# Altium integrated library Maxim Analog Filters.IntLib: 555 symbols (part 4 of 26)
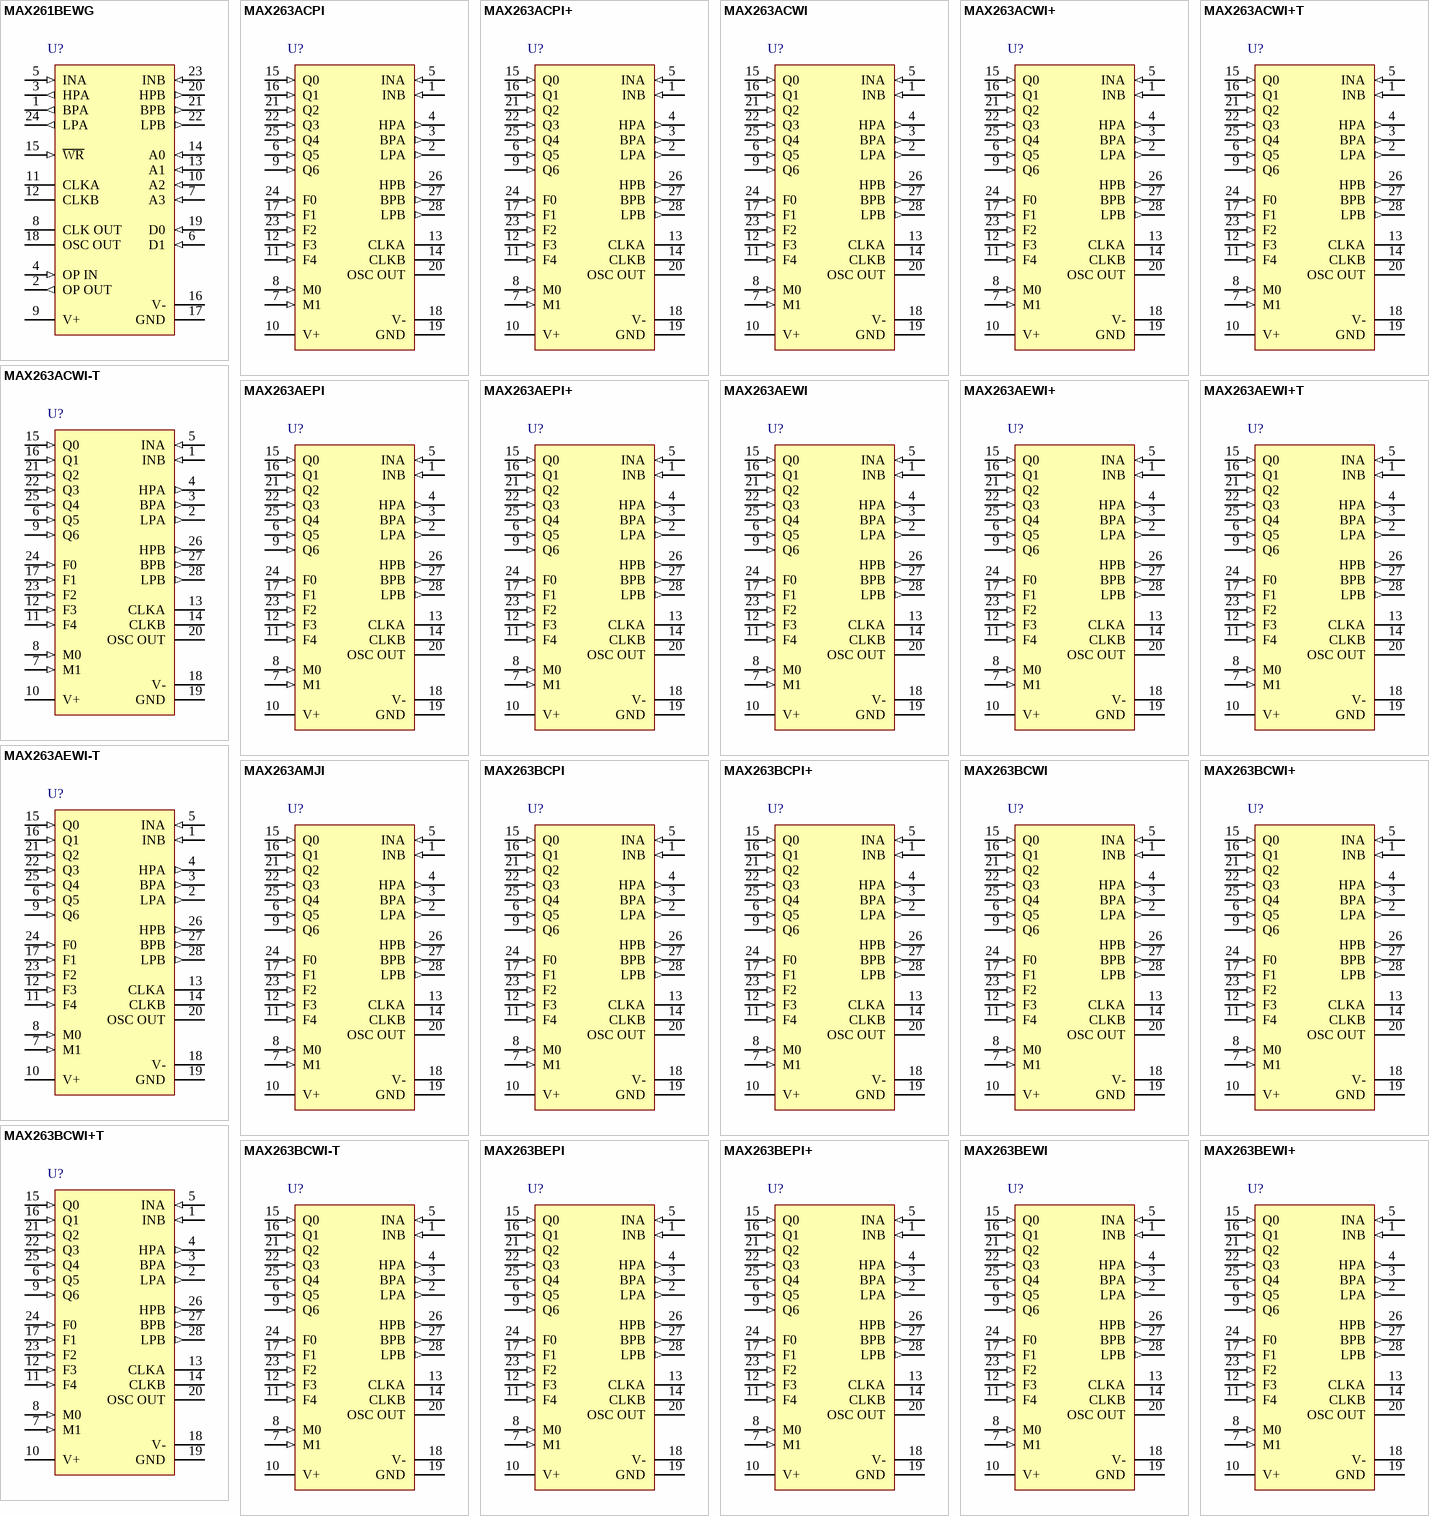
[diagram p20: symbols MAX261BEWG to MAX263BEWI+]

## MAX263AEPI+
designator U?
Switched Capacitor Filter, Pin Strap Programmable, -40 to 85 degC, 28-Pin DIP (P28+5), Pb-Free; Generic Part Number: MAX263; PartNumber: MAX263AEPI+; Filter Sections: 2; Filter Type: Universal; DatasheetVersion: Rev. 4; PackageVersion: Rev. D, 04/2011; PackageReference: P28+5; PackageDescription: 28-Pin Plastic Dual-In-Line, Wide (0.6in) (P28+5), Body 36.83 x 13.975 mm, Pitch 2.54 mm; Supplier 1: Mouser; Supplier Part Number 1: N/A; Filter Characteristic: Programmable; Filter Class: Switched Cap; Order Per Filter Section: 2; Program Method: Pin Strap; RoHS: Pb-Free; Mounting Technology: Through Hole; Code_JEDEC: MSO11; ComponentLink1Description: Manufacturer URL; ComponentLink1URL: http://www.maximintegrated.com/; ComponentLink2Description: Datasheet; ComponentLink2URL: http://datasheets.maximintegrated.com/en/ds/MAX263-MAX268.pdf; ComponentLink3Description: Package Specification; ComponentLink3URL: http://pdfserv.maximintegrated.com/package_dwgs/21-0044.PDF
footprint MAXM-P28+5 (DIP, 28-Leads, Body 36.83x13.975mm, Pitch 2.54mm)
pins: 1 INB (in) "Filter inputs", 2 LPA (out) "Lowpass outputs", 3 BPA (out) "Bandpass outputs", 4 HPA (out) "Highpass/Notch/Allpass outputs", 5 INA (in) "Filter inputs", 6 Q5 (in) "Q programming inputs", 7 M1 (in) "Mode select inputs", 8 M0 (in) "Mode select inputs", 9 Q6 (in) "Q programming inputs", 10 V+ (power) "Positive supply voltage", 11 F4 (in) "Clock/center frequency ratio (fclk/fo) programming inputs", 12 F3 (in) "Clock/center frequency ratio (fclk/fo) programming inputs", 13 CLKA "Input to the oscillator and clock input to section A.This clock is internally divided by 2.", 14 CLKB "Clock input to filter B. This clock is internally divided by 2.", 15 Q0 (in) "Q programming inputs", 16 Q1 (in) "Q programming inputs", 17 F1 (in) "Clock/center frequency ratio (fclk/fo) programming inputs", 18 V- (power) "Negative supply voltage", 19 GND (power) "Analog Ground.Connect to the system ground for dual supply operation or mid-supply for single supply operation. Gnd should be well bypassed in single supply applications.", 20 OSC OUT "Connects to crystal for self clocked operation", 21 Q2 (in) "Q programming inputs", 22 Q3 (in) "Q programming inputs", 23 F2 (in) "Clock/center frequency ratio (fclk/fo) programming inputs", 24 F0 (in) "Clock/center frequency ratio (fclk/fo) programming inputs", 25 Q4 (in) "Q programming inputs", 26 HPB (out) "Highpass/Notch/Allpass outputs", 27 BPB (out) "Bandpass outputs", 28 LPB (out) "Lowpass outputs"

## MAX263AEWI
designator U?
Switched Capacitor Filter, Pin Strap Programmable, -40 to 85 degC, 28-Pin SOIC (W28-5); Generic Part Number: MAX263; PartNumber: MAX263AEWI; Filter Sections: 2; Filter Type: Universal; DatasheetVersion: Rev. 4; PackageVersion: Rev. F, 10/2012; PackageReference: W28-5; PackageDescription: 28-Pin Small-Outline IC, Wide (0.3in) (W28-5), Body 17.9 x 7.5 mm, Pitch 1.27 mm; Supplier 1: Mouser; Supplier Part Number 1: N/A; Filter Characteristic: Programmable; Filter Class: Switched Cap; Order Per Filter Section: 2; Program Method: Pin Strap; Mounting Technology: Surface Mount; Code_JEDEC: MS013; ComponentLink1Description: Manufacturer URL; ComponentLink1URL: http://www.maximintegrated.com/; ComponentLink2Description: Datasheet; ComponentLink2URL: http://datasheets.maximintegrated.com/en/ds/MAX263-MAX268.pdf; ComponentLink3Description: Package Specification; ComponentLink3URL: http://pdfserv.maximintegrated.com/package_dwgs/21-0042.PDF
footprint MAXM-W28-5_N (SOIC, 28-Leads, Body 17.9x7.5mm, Pitch 1.27mm, IPC Medium Density)
footprint MAXM-W28-5_L (SOIC, 28-Leads, Body 17.9x7.5mm, Pitch 1.27mm, IPC High Density)
footprint MAXM-W28-5_M (SOIC, 28-Leads, Body 17.9x7.5mm, Pitch 1.27mm, IPC Low Density)
pins: 1 INB (in) "Filter inputs", 2 LPA (out) "Lowpass outputs", 3 BPA (out) "Bandpass outputs", 4 HPA (out) "Highpass/Notch/Allpass outputs", 5 INA (in) "Filter inputs", 6 Q5 (in) "Q programming inputs", 7 M1 (in) "Mode select inputs", 8 M0 (in) "Mode select inputs", 9 Q6 (in) "Q programming inputs", 10 V+ (power) "Positive supply voltage", 11 F4 (in) "Clock/center frequency ratio (fclk/fo) programming inputs", 12 F3 (in) "Clock/center frequency ratio (fclk/fo) programming inputs", 13 CLKA "Input to the oscillator and clock input to section A.This clock is internally divided by 2.", 14 CLKB "Clock input to filter B. This clock is internally divided by 2.", 15 Q0 (in) "Q programming inputs", 16 Q1 (in) "Q programming inputs", 17 F1 (in) "Clock/center frequency ratio (fclk/fo) programming inputs", 18 V- (power) "Negative supply voltage", 19 GND (power) "Analog Ground.Connect to the system ground for dual supply operation or mid-supply for single supply operation. Gnd should be well bypassed in single supply applications.", 20 OSC OUT "Connects to crystal for self clocked operation", 21 Q2 (in) "Q programming inputs", 22 Q3 (in) "Q programming inputs", 23 F2 (in) "Clock/center frequency ratio (fclk/fo) programming inputs", 24 F0 (in) "Clock/center frequency ratio (fclk/fo) programming inputs", 25 Q4 (in) "Q programming inputs", 26 HPB (out) "Highpass/Notch/Allpass outputs", 27 BPB (out) "Bandpass outputs", 28 LPB (out) "Lowpass outputs"

## MAX263AEWI+
designator U?
Switched Capacitor Filter, Pin Strap Programmable, -40 to 85 degC, 28-Pin SOIC (W28+5), Pb-Free; Generic Part Number: MAX263; PartNumber: MAX263AEWI+; Filter Sections: 2; Filter Type: Universal; DatasheetVersion: Rev. 4; PackageVersion: Rev. F, 10/2012; PackageReference: W28+5; PackageDescription: 28-Pin Small-Outline IC, Wide (0.3in) (W28+5), Body 17.9 x 7.5 mm, Pitch 1.27 mm; Supplier 1: Mouser; Supplier Part Number 1: N/A; Filter Characteristic: Programmable; Filter Class: Switched Cap; Order Per Filter Section: 2; Program Method: Pin Strap; RoHS: Pb-Free; Mounting Technology: Surface Mount; Code_JEDEC: MS013; ComponentLink1Description: Manufacturer URL; ComponentLink1URL: http://www.maximintegrated.com/; ComponentLink2Description: Datasheet; ComponentLink2URL: http://datasheets.maximintegrated.com/en/ds/MAX263-MAX268.pdf; ComponentLink3Description: Package Specification; ComponentLink3URL: http://pdfserv.maximintegrated.com/package_dwgs/21-0042.PDF
footprint MAXM-W28+5_N (SOIC, 28-Leads, Body 17.9x7.5mm, Pitch 1.27mm, IPC Medium Density)
footprint MAXM-W28+5_L (SOIC, 28-Leads, Body 17.9x7.5mm, Pitch 1.27mm, IPC High Density)
footprint MAXM-W28+5_M (SOIC, 28-Leads, Body 17.9x7.5mm, Pitch 1.27mm, IPC Low Density)
pins: 1 INB (in) "Filter inputs", 2 LPA (out) "Lowpass outputs", 3 BPA (out) "Bandpass outputs", 4 HPA (out) "Highpass/Notch/Allpass outputs", 5 INA (in) "Filter inputs", 6 Q5 (in) "Q programming inputs", 7 M1 (in) "Mode select inputs", 8 M0 (in) "Mode select inputs", 9 Q6 (in) "Q programming inputs", 10 V+ (power) "Positive supply voltage", 11 F4 (in) "Clock/center frequency ratio (fclk/fo) programming inputs", 12 F3 (in) "Clock/center frequency ratio (fclk/fo) programming inputs", 13 CLKA "Input to the oscillator and clock input to section A.This clock is internally divided by 2.", 14 CLKB "Clock input to filter B. This clock is internally divided by 2.", 15 Q0 (in) "Q programming inputs", 16 Q1 (in) "Q programming inputs", 17 F1 (in) "Clock/center frequency ratio (fclk/fo) programming inputs", 18 V- (power) "Negative supply voltage", 19 GND (power) "Analog Ground.Connect to the system ground for dual supply operation or mid-supply for single supply operation. Gnd should be well bypassed in single supply applications.", 20 OSC OUT "Connects to crystal for self clocked operation", 21 Q2 (in) "Q programming inputs", 22 Q3 (in) "Q programming inputs", 23 F2 (in) "Clock/center frequency ratio (fclk/fo) programming inputs", 24 F0 (in) "Clock/center frequency ratio (fclk/fo) programming inputs", 25 Q4 (in) "Q programming inputs", 26 HPB (out) "Highpass/Notch/Allpass outputs", 27 BPB (out) "Bandpass outputs", 28 LPB (out) "Lowpass outputs"

## MAX263AEWI+T
designator U?
Switched Capacitor Filter, Pin Strap Programmable, -40 to 85 degC, 28-Pin SOIC (W28+5), Pb-Free, Tape and Reel; Generic Part Number: MAX263; PartNumber: MAX263AEWI+T; Filter Sections: 2; Filter Type: Universal; DatasheetVersion: Rev. 4; PackageVersion: Rev. F, 10/2012; PackageReference: W28+5; PackageDescription: 28-Pin Small-Outline IC, Wide (0.3in) (W28+5), Body 17.9 x 7.5 mm, Pitch 1.27 mm; Supplier 1: Mouser; Supplier Part Number 1: N/A; Filter Characteristic: Programmable; Filter Class: Switched Cap; Order Per Filter Section: 2; Packing: Tape and Reel; Program Method: Pin Strap; RoHS: Pb-Free; Mounting Technology: Surface Mount; Code_JEDEC: MS013; ComponentLink1Description: Manufacturer URL; ComponentLink1URL: http://www.maximintegrated.com/; ComponentLink2Description: Datasheet; ComponentLink2URL: http://datasheets.maximintegrated.com/en/ds/MAX263-MAX268.pdf; ComponentLink3Description: Package Specification; ComponentLink3URL: http://pdfserv.maximintegrated.com/package_dwgs/21-0042.PDF
footprint MAXM-W28+5_N (SOIC, 28-Leads, Body 17.9x7.5mm, Pitch 1.27mm, IPC Medium Density)
footprint MAXM-W28+5_L (SOIC, 28-Leads, Body 17.9x7.5mm, Pitch 1.27mm, IPC High Density)
footprint MAXM-W28+5_M (SOIC, 28-Leads, Body 17.9x7.5mm, Pitch 1.27mm, IPC Low Density)
pins: 1 INB (in) "Filter inputs", 2 LPA (out) "Lowpass outputs", 3 BPA (out) "Bandpass outputs", 4 HPA (out) "Highpass/Notch/Allpass outputs", 5 INA (in) "Filter inputs", 6 Q5 (in) "Q programming inputs", 7 M1 (in) "Mode select inputs", 8 M0 (in) "Mode select inputs", 9 Q6 (in) "Q programming inputs", 10 V+ (power) "Positive supply voltage", 11 F4 (in) "Clock/center frequency ratio (fclk/fo) programming inputs", 12 F3 (in) "Clock/center frequency ratio (fclk/fo) programming inputs", 13 CLKA "Input to the oscillator and clock input to section A.This clock is internally divided by 2.", 14 CLKB "Clock input to filter B. This clock is internally divided by 2.", 15 Q0 (in) "Q programming inputs", 16 Q1 (in) "Q programming inputs", 17 F1 (in) "Clock/center frequency ratio (fclk/fo) programming inputs", 18 V- (power) "Negative supply voltage", 19 GND (power) "Analog Ground.Connect to the system ground for dual supply operation or mid-supply for single supply operation. Gnd should be well bypassed in single supply applications.", 20 OSC OUT "Connects to crystal for self clocked operation", 21 Q2 (in) "Q programming inputs", 22 Q3 (in) "Q programming inputs", 23 F2 (in) "Clock/center frequency ratio (fclk/fo) programming inputs", 24 F0 (in) "Clock/center frequency ratio (fclk/fo) programming inputs", 25 Q4 (in) "Q programming inputs", 26 HPB (out) "Highpass/Notch/Allpass outputs", 27 BPB (out) "Bandpass outputs", 28 LPB (out) "Lowpass outputs"

## MAX263AEWI-T
designator U?
Switched Capacitor Filter, Pin Strap Programmable, -40 to 85 degC, 28-Pin SOIC (W28-5), Tape and Reel; Generic Part Number: MAX263; PartNumber: MAX263AEWI-T; Filter Sections: 2; Filter Type: Universal; DatasheetVersion: Rev. 4; PackageVersion: Rev. F, 10/2012; PackageReference: W28-5; PackageDescription: 28-Pin Small-Outline IC, Wide (0.3in) (W28-5), Body 17.9 x 7.5 mm, Pitch 1.27 mm; Supplier 1: Mouser; Supplier Part Number 1: N/A; Filter Characteristic: Programmable; Filter Class: Switched Cap; Order Per Filter Section: 2; Packing: Tape and Reel; Program Method: Pin Strap; Mounting Technology: Surface Mount; Code_JEDEC: MS013; ComponentLink1Description: Manufacturer URL; ComponentLink1URL: http://www.maximintegrated.com/; ComponentLink2Description: Datasheet; ComponentLink2URL: http://datasheets.maximintegrated.com/en/ds/MAX263-MAX268.pdf; ComponentLink3Description: Package Specification; ComponentLink3URL: http://pdfserv.maximintegrated.com/package_dwgs/21-0042.PDF
footprint MAXM-W28-5_N (SOIC, 28-Leads, Body 17.9x7.5mm, Pitch 1.27mm, IPC Medium Density)
footprint MAXM-W28-5_L (SOIC, 28-Leads, Body 17.9x7.5mm, Pitch 1.27mm, IPC High Density)
footprint MAXM-W28-5_M (SOIC, 28-Leads, Body 17.9x7.5mm, Pitch 1.27mm, IPC Low Density)
pins: 1 INB (in) "Filter inputs", 2 LPA (out) "Lowpass outputs", 3 BPA (out) "Bandpass outputs", 4 HPA (out) "Highpass/Notch/Allpass outputs", 5 INA (in) "Filter inputs", 6 Q5 (in) "Q programming inputs", 7 M1 (in) "Mode select inputs", 8 M0 (in) "Mode select inputs", 9 Q6 (in) "Q programming inputs", 10 V+ (power) "Positive supply voltage", 11 F4 (in) "Clock/center frequency ratio (fclk/fo) programming inputs", 12 F3 (in) "Clock/center frequency ratio (fclk/fo) programming inputs", 13 CLKA "Input to the oscillator and clock input to section A.This clock is internally divided by 2.", 14 CLKB "Clock input to filter B. This clock is internally divided by 2.", 15 Q0 (in) "Q programming inputs", 16 Q1 (in) "Q programming inputs", 17 F1 (in) "Clock/center frequency ratio (fclk/fo) programming inputs", 18 V- (power) "Negative supply voltage", 19 GND (power) "Analog Ground.Connect to the system ground for dual supply operation or mid-supply for single supply operation. Gnd should be well bypassed in single supply applications.", 20 OSC OUT "Connects to crystal for self clocked operation", 21 Q2 (in) "Q programming inputs", 22 Q3 (in) "Q programming inputs", 23 F2 (in) "Clock/center frequency ratio (fclk/fo) programming inputs", 24 F0 (in) "Clock/center frequency ratio (fclk/fo) programming inputs", 25 Q4 (in) "Q programming inputs", 26 HPB (out) "Highpass/Notch/Allpass outputs", 27 BPB (out) "Bandpass outputs", 28 LPB (out) "Lowpass outputs"

## MAX263AMJI
designator U?
Switched Capacitor Filter, Pin Strap Programmable, -55 to 125 degC, 28-Pin DIP (J28-2); Generic Part Number: MAX263; PartNumber: MAX263AMJI; Filter Sections: 2; Filter Type: Universal; DatasheetVersion: Rev. 4; PackageVersion: Rev. B, 11/2009; PackageReference: J28-2; PackageDescription: 28-Pin Ceramic Dual-In-Line, Wide (0.6in) (J28-2), Body 37.85 x 14.225 mm, Pitch 2.54 mm; Supplier 1: Mouser; Supplier Part Number 1: N/A; Filter Characteristic: Programmable; Filter Class: Switched Cap; Order Per Filter Section: 2; Program Method: Pin Strap; Mounting Technology: Through Hole; ComponentLink1Description: Manufacturer URL; ComponentLink1URL: http://www.maximintegrated.com/; ComponentLink2Description: Datasheet; ComponentLink2URL: http://datasheets.maximintegrated.com/en/ds/MAX263-MAX268.pdf; ComponentLink3Description: Package Specification; ComponentLink3URL: http://pdfserv.maximintegrated.com/package_dwgs/21-0046.PDF
footprint MAXM-J28-2 (DIP, 28-Leads, Body 37.85x14.225mm, Pitch 2.54mm)
pins: 1 INB (in) "Filter inputs", 2 LPA (out) "Lowpass outputs", 3 BPA (out) "Bandpass outputs", 4 HPA (out) "Highpass/Notch/Allpass outputs", 5 INA (in) "Filter inputs", 6 Q5 (in) "Q programming inputs", 7 M1 (in) "Mode select inputs", 8 M0 (in) "Mode select inputs", 9 Q6 (in) "Q programming inputs", 10 V+ (power) "Positive supply voltage", 11 F4 (in) "Clock/center frequency ratio (fclk/fo) programming inputs", 12 F3 (in) "Clock/center frequency ratio (fclk/fo) programming inputs", 13 CLKA "Input to the oscillator and clock input to section A.This clock is internally divided by 2.", 14 CLKB "Clock input to filter B. This clock is internally divided by 2.", 15 Q0 (in) "Q programming inputs", 16 Q1 (in) "Q programming inputs", 17 F1 (in) "Clock/center frequency ratio (fclk/fo) programming inputs", 18 V- (power) "Negative supply voltage", 19 GND (power) "Analog Ground.Connect to the system ground for dual supply operation or mid-supply for single supply operation. Gnd should be well bypassed in single supply applications.", 20 OSC OUT "Connects to crystal for self clocked operation", 21 Q2 (in) "Q programming inputs", 22 Q3 (in) "Q programming inputs", 23 F2 (in) "Clock/center frequency ratio (fclk/fo) programming inputs", 24 F0 (in) "Clock/center frequency ratio (fclk/fo) programming inputs", 25 Q4 (in) "Q programming inputs", 26 HPB (out) "Highpass/Notch/Allpass outputs", 27 BPB (out) "Bandpass outputs", 28 LPB (out) "Lowpass outputs"

## MAX263BCPI
designator U?
Switched Capacitor Filter, Pin Strap Programmable, 0 to 70 degC, 28-Pin DIP (P28-5); Generic Part Number: MAX263; PartNumber: MAX263BCPI; Filter Sections: 2; Filter Type: Universal; DatasheetVersion: Rev. 4; PackageVersion: Rev. D, 04/2011; PackageReference: P28-5; PackageDescription: 28-Pin Plastic Dual-In-Line, Wide (0.6in) (P28-5), Body 36.83 x 13.975 mm, Pitch 2.54 mm; Supplier 1: Mouser; Supplier Part Number 1: N/A; Filter Characteristic: Programmable; Filter Class: Switched Cap; Order Per Filter Section: 2; Program Method: Pin Strap; Mounting Technology: Through Hole; Code_JEDEC: MS011; ComponentLink1Description: Manufacturer URL; ComponentLink1URL: http://www.maximintegrated.com/; ComponentLink2Description: Datasheet; ComponentLink2URL: http://datasheets.maximintegrated.com/en/ds/MAX263-MAX268.pdf; ComponentLink3Description: Package Specification; ComponentLink3URL: http://pdfserv.maximintegrated.com/package_dwgs/21-0044.PDF
footprint MAXM-P28-5 (DIP, 28-Leads, Body 36.83x13.975mm, Pitch 2.54mm)
pins: 1 INB (in) "Filter inputs", 2 LPA (out) "Lowpass outputs", 3 BPA (out) "Bandpass outputs", 4 HPA (out) "Highpass/Notch/Allpass outputs", 5 INA (in) "Filter inputs", 6 Q5 (in) "Q programming inputs", 7 M1 (in) "Mode select inputs", 8 M0 (in) "Mode select inputs", 9 Q6 (in) "Q programming inputs", 10 V+ (power) "Positive supply voltage", 11 F4 (in) "Clock/center frequency ratio (fclk/fo) programming inputs", 12 F3 (in) "Clock/center frequency ratio (fclk/fo) programming inputs", 13 CLKA "Input to the oscillator and clock input to section A.This clock is internally divided by 2.", 14 CLKB "Clock input to filter B. This clock is internally divided by 2.", 15 Q0 (in) "Q programming inputs", 16 Q1 (in) "Q programming inputs", 17 F1 (in) "Clock/center frequency ratio (fclk/fo) programming inputs", 18 V- (power) "Negative supply voltage", 19 GND (power) "Analog Ground.Connect to the system ground for dual supply operation or mid-supply for single supply operation. Gnd should be well bypassed in single supply applications.", 20 OSC OUT "Connects to crystal for self clocked operation", 21 Q2 (in) "Q programming inputs", 22 Q3 (in) "Q programming inputs", 23 F2 (in) "Clock/center frequency ratio (fclk/fo) programming inputs", 24 F0 (in) "Clock/center frequency ratio (fclk/fo) programming inputs", 25 Q4 (in) "Q programming inputs", 26 HPB (out) "Highpass/Notch/Allpass outputs", 27 BPB (out) "Bandpass outputs", 28 LPB (out) "Lowpass outputs"

## MAX263BCPI+
designator U?
Switched Capacitor Filter, Pin Strap Programmable, 0 to 70 degC, 28-Pin DIP (P28+5), Pb-Free; Generic Part Number: MAX263; PartNumber: MAX263BCPI+; Filter Sections: 2; Filter Type: Universal; DatasheetVersion: Rev. 4; PackageVersion: Rev. D, 04/2011; PackageReference: P28+5; PackageDescription: 28-Pin Plastic Dual-In-Line, Wide (0.6in) (P28+5), Body 36.83 x 13.975 mm, Pitch 2.54 mm; Supplier 1: Digi-Key; Supplier Part Number 1: MAX263BCPI+-ND; Supplier 2: Mouser; Supplier Part Number 2: 700-MAX263BCPI; Filter Characteristic: Programmable; Filter Class: Switched Cap; Order Per Filter Section: 2; Program Method: Pin Strap; RoHS: Pb-Free; Mounting Technology: Through Hole; Code_JEDEC: MSO11; ComponentLink1Description: Manufacturer URL; ComponentLink1URL: http://www.maximintegrated.com/; ComponentLink2Description: Datasheet; ComponentLink2URL: http://datasheets.maximintegrated.com/en/ds/MAX263-MAX268.pdf; ComponentLink3Description: Package Specification; ComponentLink3URL: http://pdfserv.maximintegrated.com/package_dwgs/21-0044.PDF
footprint MAXM-P28+5 (DIP, 28-Leads, Body 36.83x13.975mm, Pitch 2.54mm)
pins: 1 INB (in) "Filter inputs", 2 LPA (out) "Lowpass outputs", 3 BPA (out) "Bandpass outputs", 4 HPA (out) "Highpass/Notch/Allpass outputs", 5 INA (in) "Filter inputs", 6 Q5 (in) "Q programming inputs", 7 M1 (in) "Mode select inputs", 8 M0 (in) "Mode select inputs", 9 Q6 (in) "Q programming inputs", 10 V+ (power) "Positive supply voltage", 11 F4 (in) "Clock/center frequency ratio (fclk/fo) programming inputs", 12 F3 (in) "Clock/center frequency ratio (fclk/fo) programming inputs", 13 CLKA "Input to the oscillator and clock input to section A.This clock is internally divided by 2.", 14 CLKB "Clock input to filter B. This clock is internally divided by 2.", 15 Q0 (in) "Q programming inputs", 16 Q1 (in) "Q programming inputs", 17 F1 (in) "Clock/center frequency ratio (fclk/fo) programming inputs", 18 V- (power) "Negative supply voltage", 19 GND (power) "Analog Ground.Connect to the system ground for dual supply operation or mid-supply for single supply operation. Gnd should be well bypassed in single supply applications.", 20 OSC OUT "Connects to crystal for self clocked operation", 21 Q2 (in) "Q programming inputs", 22 Q3 (in) "Q programming inputs", 23 F2 (in) "Clock/center frequency ratio (fclk/fo) programming inputs", 24 F0 (in) "Clock/center frequency ratio (fclk/fo) programming inputs", 25 Q4 (in) "Q programming inputs", 26 HPB (out) "Highpass/Notch/Allpass outputs", 27 BPB (out) "Bandpass outputs", 28 LPB (out) "Lowpass outputs"

## MAX263BCWI
designator U?
Switched Capacitor Filter, Pin Strap Programmable, 0 to 70 degC, 28-Pin SOIC (W28-5); Generic Part Number: MAX263; PartNumber: MAX263BCWI; Filter Sections: 2; Filter Type: Universal; DatasheetVersion: Rev. 4; PackageVersion: Rev. F, 10/2012; PackageReference: W28-5; PackageDescription: 28-Pin Small-Outline IC, Wide (0.3in) (W28-5), Body 17.9 x 7.5 mm, Pitch 1.27 mm; Supplier 1: Mouser; Supplier Part Number 1: N/A; Filter Characteristic: Programmable; Filter Class: Switched Cap; Order Per Filter Section: 2; Program Method: Pin Strap; Mounting Technology: Surface Mount; Code_JEDEC: MS013; ComponentLink1Description: Manufacturer URL; ComponentLink1URL: http://www.maximintegrated.com/; ComponentLink2Description: Datasheet; ComponentLink2URL: http://datasheets.maximintegrated.com/en/ds/MAX263-MAX268.pdf; ComponentLink3Description: Package Specification; ComponentLink3URL: http://pdfserv.maximintegrated.com/package_dwgs/21-0042.PDF
footprint MAXM-W28-5_N (SOIC, 28-Leads, Body 17.9x7.5mm, Pitch 1.27mm, IPC Medium Density)
footprint MAXM-W28-5_L (SOIC, 28-Leads, Body 17.9x7.5mm, Pitch 1.27mm, IPC High Density)
footprint MAXM-W28-5_M (SOIC, 28-Leads, Body 17.9x7.5mm, Pitch 1.27mm, IPC Low Density)
pins: 1 INB (in) "Filter inputs", 2 LPA (out) "Lowpass outputs", 3 BPA (out) "Bandpass outputs", 4 HPA (out) "Highpass/Notch/Allpass outputs", 5 INA (in) "Filter inputs", 6 Q5 (in) "Q programming inputs", 7 M1 (in) "Mode select inputs", 8 M0 (in) "Mode select inputs", 9 Q6 (in) "Q programming inputs", 10 V+ (power) "Positive supply voltage", 11 F4 (in) "Clock/center frequency ratio (fclk/fo) programming inputs", 12 F3 (in) "Clock/center frequency ratio (fclk/fo) programming inputs", 13 CLKA "Input to the oscillator and clock input to section A.This clock is internally divided by 2.", 14 CLKB "Clock input to filter B. This clock is internally divided by 2.", 15 Q0 (in) "Q programming inputs", 16 Q1 (in) "Q programming inputs", 17 F1 (in) "Clock/center frequency ratio (fclk/fo) programming inputs", 18 V- (power) "Negative supply voltage", 19 GND (power) "Analog Ground.Connect to the system ground for dual supply operation or mid-supply for single supply operation. Gnd should be well bypassed in single supply applications.", 20 OSC OUT "Connects to crystal for self clocked operation", 21 Q2 (in) "Q programming inputs", 22 Q3 (in) "Q programming inputs", 23 F2 (in) "Clock/center frequency ratio (fclk/fo) programming inputs", 24 F0 (in) "Clock/center frequency ratio (fclk/fo) programming inputs", 25 Q4 (in) "Q programming inputs", 26 HPB (out) "Highpass/Notch/Allpass outputs", 27 BPB (out) "Bandpass outputs", 28 LPB (out) "Lowpass outputs"

## MAX263BCWI+
designator U?
Switched Capacitor Filter, Pin Strap Programmable, 0 to 70 degC, 28-Pin SOIC (W28+5), Pb-Free; Generic Part Number: MAX263; PartNumber: MAX263BCWI+; Filter Sections: 2; Filter Type: Universal; DatasheetVersion: Rev. 4; PackageVersion: Rev. F, 10/2012; PackageReference: W28+5; PackageDescription: 28-Pin Small-Outline IC, Wide (0.3in) (W28+5), Body 17.9 x 7.5 mm, Pitch 1.27 mm; Supplier 1: Digi-Key; Supplier Part Number 1: MAX263BCWI+-ND; Supplier 2: Mouser; Supplier Part Number 2: 700-MAX263BCWI; Filter Characteristic: Programmable; Filter Class: Switched Cap; Order Per Filter Section: 2; Program Method: Pin Strap; RoHS: Pb-Free; Mounting Technology: Surface Mount; Code_JEDEC: MS013; ComponentLink1Description: Manufacturer URL; ComponentLink1URL: http://www.maximintegrated.com/; ComponentLink2Description: Datasheet; ComponentLink2URL: http://datasheets.maximintegrated.com/en/ds/MAX263-MAX268.pdf; ComponentLink3Description: Package Specification; ComponentLink3URL: http://pdfserv.maximintegrated.com/package_dwgs/21-0042.PDF
footprint MAXM-W28+5_N (SOIC, 28-Leads, Body 17.9x7.5mm, Pitch 1.27mm, IPC Medium Density)
footprint MAXM-W28+5_L (SOIC, 28-Leads, Body 17.9x7.5mm, Pitch 1.27mm, IPC High Density)
footprint MAXM-W28+5_M (SOIC, 28-Leads, Body 17.9x7.5mm, Pitch 1.27mm, IPC Low Density)
pins: 1 INB (in) "Filter inputs", 2 LPA (out) "Lowpass outputs", 3 BPA (out) "Bandpass outputs", 4 HPA (out) "Highpass/Notch/Allpass outputs", 5 INA (in) "Filter inputs", 6 Q5 (in) "Q programming inputs", 7 M1 (in) "Mode select inputs", 8 M0 (in) "Mode select inputs", 9 Q6 (in) "Q programming inputs", 10 V+ (power) "Positive supply voltage", 11 F4 (in) "Clock/center frequency ratio (fclk/fo) programming inputs", 12 F3 (in) "Clock/center frequency ratio (fclk/fo) programming inputs", 13 CLKA "Input to the oscillator and clock input to section A.This clock is internally divided by 2.", 14 CLKB "Clock input to filter B. This clock is internally divided by 2.", 15 Q0 (in) "Q programming inputs", 16 Q1 (in) "Q programming inputs", 17 F1 (in) "Clock/center frequency ratio (fclk/fo) programming inputs", 18 V- (power) "Negative supply voltage", 19 GND (power) "Analog Ground.Connect to the system ground for dual supply operation or mid-supply for single supply operation. Gnd should be well bypassed in single supply applications.", 20 OSC OUT "Connects to crystal for self clocked operation", 21 Q2 (in) "Q programming inputs", 22 Q3 (in) "Q programming inputs", 23 F2 (in) "Clock/center frequency ratio (fclk/fo) programming inputs", 24 F0 (in) "Clock/center frequency ratio (fclk/fo) programming inputs", 25 Q4 (in) "Q programming inputs", 26 HPB (out) "Highpass/Notch/Allpass outputs", 27 BPB (out) "Bandpass outputs", 28 LPB (out) "Lowpass outputs"

## MAX263BCWI+T
designator U?
Switched Capacitor Filter, Pin Strap Programmable, 0 to 70 degC, 28-Pin SOIC (W28+5), Pb-Free, Tape and Reel; Generic Part Number: MAX263; PartNumber: MAX263BCWI+T; Filter Sections: 2; Filter Type: Universal; DatasheetVersion: Rev. 4; PackageVersion: Rev. F, 10/2012; PackageReference: W28+5; PackageDescription: 28-Pin Small-Outline IC, Wide (0.3in) (W28+5), Body 17.9 x 7.5 mm, Pitch 1.27 mm; Supplier 1: Digi-Key; Supplier Part Number 1: MAX263BCWI+T-ND; Supplier 2: Mouser; Supplier Part Number 2: 700-MAX263BCWIT; Filter Characteristic: Programmable; Filter Class: Switched Cap; Order Per Filter Section: 2; Packing: Tape and Reel; Program Method: Pin Strap; RoHS: Pb-Free; Mounting Technology: Surface Mount; Code_JEDEC: MS013; ComponentLink1Description: Manufacturer URL; ComponentLink1URL: http://www.maximintegrated.com/; ComponentLink2Description: Datasheet; ComponentLink2URL: http://datasheets.maximintegrated.com/en/ds/MAX263-MAX268.pdf; ComponentLink3Description: Package Specification; ComponentLink3URL: http://pdfserv.maximintegrated.com/package_dwgs/21-0042.PDF
footprint MAXM-W28+5_N (SOIC, 28-Leads, Body 17.9x7.5mm, Pitch 1.27mm, IPC Medium Density)
footprint MAXM-W28+5_L (SOIC, 28-Leads, Body 17.9x7.5mm, Pitch 1.27mm, IPC High Density)
footprint MAXM-W28+5_M (SOIC, 28-Leads, Body 17.9x7.5mm, Pitch 1.27mm, IPC Low Density)
pins: 1 INB (in) "Filter inputs", 2 LPA (out) "Lowpass outputs", 3 BPA (out) "Bandpass outputs", 4 HPA (out) "Highpass/Notch/Allpass outputs", 5 INA (in) "Filter inputs", 6 Q5 (in) "Q programming inputs", 7 M1 (in) "Mode select inputs", 8 M0 (in) "Mode select inputs", 9 Q6 (in) "Q programming inputs", 10 V+ (power) "Positive supply voltage", 11 F4 (in) "Clock/center frequency ratio (fclk/fo) programming inputs", 12 F3 (in) "Clock/center frequency ratio (fclk/fo) programming inputs", 13 CLKA "Input to the oscillator and clock input to section A.This clock is internally divided by 2.", 14 CLKB "Clock input to filter B. This clock is internally divided by 2.", 15 Q0 (in) "Q programming inputs", 16 Q1 (in) "Q programming inputs", 17 F1 (in) "Clock/center frequency ratio (fclk/fo) programming inputs", 18 V- (power) "Negative supply voltage", 19 GND (power) "Analog Ground.Connect to the system ground for dual supply operation or mid-supply for single supply operation. Gnd should be well bypassed in single supply applications.", 20 OSC OUT "Connects to crystal for self clocked operation", 21 Q2 (in) "Q programming inputs", 22 Q3 (in) "Q programming inputs", 23 F2 (in) "Clock/center frequency ratio (fclk/fo) programming inputs", 24 F0 (in) "Clock/center frequency ratio (fclk/fo) programming inputs", 25 Q4 (in) "Q programming inputs", 26 HPB (out) "Highpass/Notch/Allpass outputs", 27 BPB (out) "Bandpass outputs", 28 LPB (out) "Lowpass outputs"

## MAX263BCWI-T
designator U?
Switched Capacitor Filter, Pin Strap Programmable, 0 to 70 degC, 28-Pin SOIC (W28-5), Tape and Reel; Generic Part Number: MAX263; PartNumber: MAX263BCWI-T; Filter Sections: 2; Filter Type: Universal; DatasheetVersion: Rev. 4; PackageVersion: Rev. F, 10/2012; PackageReference: W28-5; PackageDescription: 28-Pin Small-Outline IC, Wide (0.3in) (W28-5), Body 17.9 x 7.5 mm, Pitch 1.27 mm; Supplier 1: Mouser; Supplier Part Number 1: N/A; Filter Characteristic: Programmable; Filter Class: Switched Cap; Order Per Filter Section: 2; Packing: Tape and Reel; Program Method: Pin Strap; Mounting Technology: Surface Mount; Code_JEDEC: MS013; ComponentLink1Description: Manufacturer URL; ComponentLink1URL: http://www.maximintegrated.com/; ComponentLink2Description: Datasheet; ComponentLink2URL: http://datasheets.maximintegrated.com/en/ds/MAX263-MAX268.pdf; ComponentLink3Description: Package Specification; ComponentLink3URL: http://pdfserv.maximintegrated.com/package_dwgs/21-0042.PDF
footprint MAXM-W28-5_N (SOIC, 28-Leads, Body 17.9x7.5mm, Pitch 1.27mm, IPC Medium Density)
footprint MAXM-W28-5_L (SOIC, 28-Leads, Body 17.9x7.5mm, Pitch 1.27mm, IPC High Density)
footprint MAXM-W28-5_M (SOIC, 28-Leads, Body 17.9x7.5mm, Pitch 1.27mm, IPC Low Density)
pins: 1 INB (in) "Filter inputs", 2 LPA (out) "Lowpass outputs", 3 BPA (out) "Bandpass outputs", 4 HPA (out) "Highpass/Notch/Allpass outputs", 5 INA (in) "Filter inputs", 6 Q5 (in) "Q programming inputs", 7 M1 (in) "Mode select inputs", 8 M0 (in) "Mode select inputs", 9 Q6 (in) "Q programming inputs", 10 V+ (power) "Positive supply voltage", 11 F4 (in) "Clock/center frequency ratio (fclk/fo) programming inputs", 12 F3 (in) "Clock/center frequency ratio (fclk/fo) programming inputs", 13 CLKA "Input to the oscillator and clock input to section A.This clock is internally divided by 2.", 14 CLKB "Clock input to filter B. This clock is internally divided by 2.", 15 Q0 (in) "Q programming inputs", 16 Q1 (in) "Q programming inputs", 17 F1 (in) "Clock/center frequency ratio (fclk/fo) programming inputs", 18 V- (power) "Negative supply voltage", 19 GND (power) "Analog Ground.Connect to the system ground for dual supply operation or mid-supply for single supply operation. Gnd should be well bypassed in single supply applications.", 20 OSC OUT "Connects to crystal for self clocked operation", 21 Q2 (in) "Q programming inputs", 22 Q3 (in) "Q programming inputs", 23 F2 (in) "Clock/center frequency ratio (fclk/fo) programming inputs", 24 F0 (in) "Clock/center frequency ratio (fclk/fo) programming inputs", 25 Q4 (in) "Q programming inputs", 26 HPB (out) "Highpass/Notch/Allpass outputs", 27 BPB (out) "Bandpass outputs", 28 LPB (out) "Lowpass outputs"

## MAX263BEPI
designator U?
Switched Capacitor Filter, Pin Strap Programmable, -40 to 85 degC, 28-Pin DIP (P28-5); Generic Part Number: MAX263; PartNumber: MAX263BEPI; Filter Sections: 2; Filter Type: Universal; DatasheetVersion: Rev. 4; PackageVersion: Rev. D, 04/2011; PackageReference: P28-5; PackageDescription: 28-Pin Plastic Dual-In-Line, Wide (0.6in) (P28-5), Body 36.83 x 13.975 mm, Pitch 2.54 mm; Supplier 1: Mouser; Supplier Part Number 1: N/A; Filter Characteristic: Programmable; Filter Class: Switched Cap; Order Per Filter Section: 2; Program Method: Pin Strap; Mounting Technology: Through Hole; Code_JEDEC: MS011; ComponentLink1Description: Manufacturer URL; ComponentLink1URL: http://www.maximintegrated.com/; ComponentLink2Description: Datasheet; ComponentLink2URL: http://datasheets.maximintegrated.com/en/ds/MAX263-MAX268.pdf; ComponentLink3Description: Package Specification; ComponentLink3URL: http://pdfserv.maximintegrated.com/package_dwgs/21-0044.PDF
footprint MAXM-P28-5 (DIP, 28-Leads, Body 36.83x13.975mm, Pitch 2.54mm)
pins: 1 INB (in) "Filter inputs", 2 LPA (out) "Lowpass outputs", 3 BPA (out) "Bandpass outputs", 4 HPA (out) "Highpass/Notch/Allpass outputs", 5 INA (in) "Filter inputs", 6 Q5 (in) "Q programming inputs", 7 M1 (in) "Mode select inputs", 8 M0 (in) "Mode select inputs", 9 Q6 (in) "Q programming inputs", 10 V+ (power) "Positive supply voltage", 11 F4 (in) "Clock/center frequency ratio (fclk/fo) programming inputs", 12 F3 (in) "Clock/center frequency ratio (fclk/fo) programming inputs", 13 CLKA "Input to the oscillator and clock input to section A.This clock is internally divided by 2.", 14 CLKB "Clock input to filter B. This clock is internally divided by 2.", 15 Q0 (in) "Q programming inputs", 16 Q1 (in) "Q programming inputs", 17 F1 (in) "Clock/center frequency ratio (fclk/fo) programming inputs", 18 V- (power) "Negative supply voltage", 19 GND (power) "Analog Ground.Connect to the system ground for dual supply operation or mid-supply for single supply operation. Gnd should be well bypassed in single supply applications.", 20 OSC OUT "Connects to crystal for self clocked operation", 21 Q2 (in) "Q programming inputs", 22 Q3 (in) "Q programming inputs", 23 F2 (in) "Clock/center frequency ratio (fclk/fo) programming inputs", 24 F0 (in) "Clock/center frequency ratio (fclk/fo) programming inputs", 25 Q4 (in) "Q programming inputs", 26 HPB (out) "Highpass/Notch/Allpass outputs", 27 BPB (out) "Bandpass outputs", 28 LPB (out) "Lowpass outputs"

## MAX263BEPI+
designator U?
Switched Capacitor Filter, Pin Strap Programmable, -40 to 85 degC, 28-Pin DIP (P28+5), Pb-Free; Generic Part Number: MAX263; PartNumber: MAX263BEPI+; Filter Sections: 2; Filter Type: Universal; DatasheetVersion: Rev. 4; PackageVersion: Rev. D, 04/2011; PackageReference: P28+5; PackageDescription: 28-Pin Plastic Dual-In-Line, Wide (0.6in) (P28+5), Body 36.83 x 13.975 mm, Pitch 2.54 mm; Supplier 1: Digi-Key; Supplier Part Number 1: MAX263BEPI+-ND; Supplier 2: Mouser; Supplier Part Number 2: 700-MAX263BEPI; Filter Characteristic: Programmable; Filter Class: Switched Cap; Order Per Filter Section: 2; Program Method: Pin Strap; RoHS: Pb-Free; Mounting Technology: Through Hole; Code_JEDEC: MSO11; ComponentLink1Description: Manufacturer URL; ComponentLink1URL: http://www.maximintegrated.com/; ComponentLink2Description: Datasheet; ComponentLink2URL: http://datasheets.maximintegrated.com/en/ds/MAX263-MAX268.pdf; ComponentLink3Description: Package Specification; ComponentLink3URL: http://pdfserv.maximintegrated.com/package_dwgs/21-0044.PDF
footprint MAXM-P28+5 (DIP, 28-Leads, Body 36.83x13.975mm, Pitch 2.54mm)
pins: 1 INB (in) "Filter inputs", 2 LPA (out) "Lowpass outputs", 3 BPA (out) "Bandpass outputs", 4 HPA (out) "Highpass/Notch/Allpass outputs", 5 INA (in) "Filter inputs", 6 Q5 (in) "Q programming inputs", 7 M1 (in) "Mode select inputs", 8 M0 (in) "Mode select inputs", 9 Q6 (in) "Q programming inputs", 10 V+ (power) "Positive supply voltage", 11 F4 (in) "Clock/center frequency ratio (fclk/fo) programming inputs", 12 F3 (in) "Clock/center frequency ratio (fclk/fo) programming inputs", 13 CLKA "Input to the oscillator and clock input to section A.This clock is internally divided by 2.", 14 CLKB "Clock input to filter B. This clock is internally divided by 2.", 15 Q0 (in) "Q programming inputs", 16 Q1 (in) "Q programming inputs", 17 F1 (in) "Clock/center frequency ratio (fclk/fo) programming inputs", 18 V- (power) "Negative supply voltage", 19 GND (power) "Analog Ground.Connect to the system ground for dual supply operation or mid-supply for single supply operation. Gnd should be well bypassed in single supply applications.", 20 OSC OUT "Connects to crystal for self clocked operation", 21 Q2 (in) "Q programming inputs", 22 Q3 (in) "Q programming inputs", 23 F2 (in) "Clock/center frequency ratio (fclk/fo) programming inputs", 24 F0 (in) "Clock/center frequency ratio (fclk/fo) programming inputs", 25 Q4 (in) "Q programming inputs", 26 HPB (out) "Highpass/Notch/Allpass outputs", 27 BPB (out) "Bandpass outputs", 28 LPB (out) "Lowpass outputs"

## MAX263BEWI
designator U?
Switched Capacitor Filter, Pin Strap Programmable, -40 to 85 degC, 28-Pin SOIC (W28-5); Generic Part Number: MAX263; PartNumber: MAX263BEWI; Filter Sections: 2; Filter Type: Universal; DatasheetVersion: Rev. 4; PackageVersion: Rev. F, 10/2012; PackageReference: W28-5; PackageDescription: 28-Pin Small-Outline IC, Wide (0.3in) (W28-5), Body 17.9 x 7.5 mm, Pitch 1.27 mm; Supplier 1: Mouser; Supplier Part Number 1: N/A; Filter Characteristic: Programmable; Filter Class: Switched Cap; Order Per Filter Section: 2; Program Method: Pin Strap; Mounting Technology: Surface Mount; Code_JEDEC: MS013; ComponentLink1Description: Manufacturer URL; ComponentLink1URL: http://www.maximintegrated.com/; ComponentLink2Description: Datasheet; ComponentLink2URL: http://datasheets.maximintegrated.com/en/ds/MAX263-MAX268.pdf; ComponentLink3Description: Package Specification; ComponentLink3URL: http://pdfserv.maximintegrated.com/package_dwgs/21-0042.PDF
footprint MAXM-W28-5_N (SOIC, 28-Leads, Body 17.9x7.5mm, Pitch 1.27mm, IPC Medium Density)
footprint MAXM-W28-5_L (SOIC, 28-Leads, Body 17.9x7.5mm, Pitch 1.27mm, IPC High Density)
footprint MAXM-W28-5_M (SOIC, 28-Leads, Body 17.9x7.5mm, Pitch 1.27mm, IPC Low Density)
pins: 1 INB (in) "Filter inputs", 2 LPA (out) "Lowpass outputs", 3 BPA (out) "Bandpass outputs", 4 HPA (out) "Highpass/Notch/Allpass outputs", 5 INA (in) "Filter inputs", 6 Q5 (in) "Q programming inputs", 7 M1 (in) "Mode select inputs", 8 M0 (in) "Mode select inputs", 9 Q6 (in) "Q programming inputs", 10 V+ (power) "Positive supply voltage", 11 F4 (in) "Clock/center frequency ratio (fclk/fo) programming inputs", 12 F3 (in) "Clock/center frequency ratio (fclk/fo) programming inputs", 13 CLKA "Input to the oscillator and clock input to section A.This clock is internally divided by 2.", 14 CLKB "Clock input to filter B. This clock is internally divided by 2.", 15 Q0 (in) "Q programming inputs", 16 Q1 (in) "Q programming inputs", 17 F1 (in) "Clock/center frequency ratio (fclk/fo) programming inputs", 18 V- (power) "Negative supply voltage", 19 GND (power) "Analog Ground.Connect to the system ground for dual supply operation or mid-supply for single supply operation. Gnd should be well bypassed in single supply applications.", 20 OSC OUT "Connects to crystal for self clocked operation", 21 Q2 (in) "Q programming inputs", 22 Q3 (in) "Q programming inputs", 23 F2 (in) "Clock/center frequency ratio (fclk/fo) programming inputs", 24 F0 (in) "Clock/center frequency ratio (fclk/fo) programming inputs", 25 Q4 (in) "Q programming inputs", 26 HPB (out) "Highpass/Notch/Allpass outputs", 27 BPB (out) "Bandpass outputs", 28 LPB (out) "Lowpass outputs"

## MAX263BEWI+
designator U?
Switched Capacitor Filter, Pin Strap Programmable, -40 to 85 degC, 28-Pin SOIC (W28+5), Pb-Free; Generic Part Number: MAX263; PartNumber: MAX263BEWI+; Filter Sections: 2; Filter Type: Universal; DatasheetVersion: Rev. 4; PackageVersion: Rev. F, 10/2012; PackageReference: W28+5; PackageDescription: 28-Pin Small-Outline IC, Wide (0.3in) (W28+5), Body 17.9 x 7.5 mm, Pitch 1.27 mm; Supplier 1: Digi-Key; Supplier Part Number 1: MAX263BEWI+-ND; Supplier 2: Mouser; Supplier Part Number 2: 700-MAX263BEWI; Filter Characteristic: Programmable; Filter Class: Switched Cap; Order Per Filter Section: 2; Program Method: Pin Strap; RoHS: Pb-Free; Mounting Technology: Surface Mount; Code_JEDEC: MS013; ComponentLink1Description: Manufacturer URL; ComponentLink1URL: http://www.maximintegrated.com/; ComponentLink2Description: Datasheet; ComponentLink2URL: http://datasheets.maximintegrated.com/en/ds/MAX263; ComponentLink3Description: Package Specification; ComponentLink3URL: http://pdfserv.maximintegrated.com/package_dwgs/21-0042.PDF
footprint MAXM-W28+5_N (SOIC, 28-Leads, Body 17.9x7.5mm, Pitch 1.27mm, IPC Medium Density)
footprint MAXM-W28+5_L (SOIC, 28-Leads, Body 17.9x7.5mm, Pitch 1.27mm, IPC High Density)
footprint MAXM-W28+5_M (SOIC, 28-Leads, Body 17.9x7.5mm, Pitch 1.27mm, IPC Low Density)
pins: 1 INB (in) "Filter inputs", 2 LPA (out) "Lowpass outputs", 3 BPA (out) "Bandpass outputs", 4 HPA (out) "Highpass/Notch/Allpass outputs", 5 INA (in) "Filter inputs", 6 Q5 (in) "Q programming inputs", 7 M1 (in) "Mode select inputs", 8 M0 (in) "Mode select inputs", 9 Q6 (in) "Q programming inputs", 10 V+ (power) "Positive supply voltage", 11 F4 (in) "Clock/center frequency ratio (fclk/fo) programming inputs", 12 F3 (in) "Clock/center frequency ratio (fclk/fo) programming inputs", 13 CLKA "Input to the oscillator and clock input to section A.This clock is internally divided by 2.", 14 CLKB "Clock input to filter B. This clock is internally divided by 2.", 15 Q0 (in) "Q programming inputs", 16 Q1 (in) "Q programming inputs", 17 F1 (in) "Clock/center frequency ratio (fclk/fo) programming inputs", 18 V- (power) "Negative supply voltage", 19 GND (power) "Analog Ground.Connect to the system ground for dual supply operation or mid-supply for single supply operation. Gnd should be well bypassed in single supply applications.", 20 OSC OUT "Connects to crystal for self clocked operation", 21 Q2 (in) "Q programming inputs", 22 Q3 (in) "Q programming inputs", 23 F2 (in) "Clock/center frequency ratio (fclk/fo) programming inputs", 24 F0 (in) "Clock/center frequency ratio (fclk/fo) programming inputs", 25 Q4 (in) "Q programming inputs", 26 HPB (out) "Highpass/Notch/Allpass outputs", 27 BPB (out) "Bandpass outputs", 28 LPB (out) "Lowpass outputs"

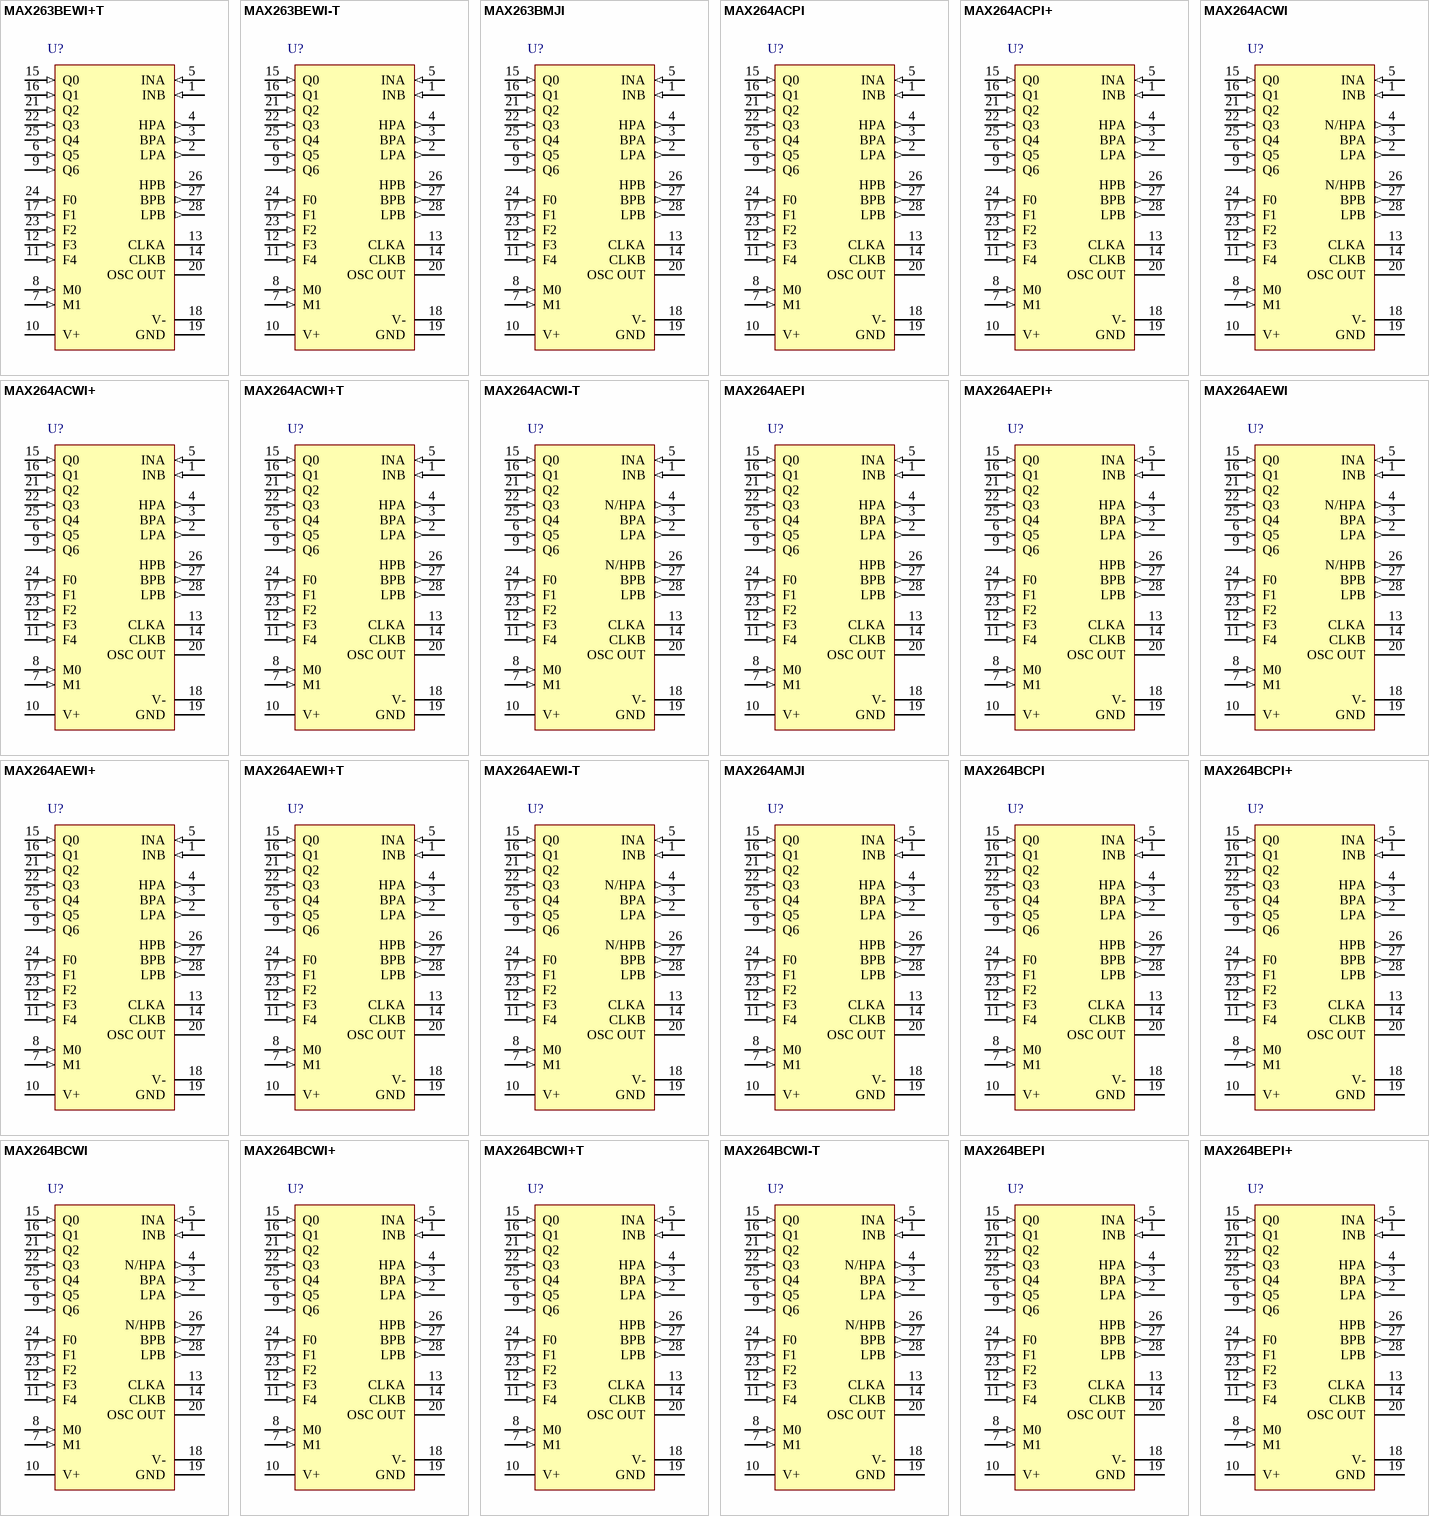
[diagram p3: symbols MAX263BEWI+T to MAX264BEPI+]

## MAX263BEWI+T
designator U?
Switched Capacitor Filter, Pin Strap Programmable, -40 to 85 degC, 28-Pin SOIC (W28+5), Pb-Free, Tape and Reel; Generic Part Number: MAX263; PartNumber: MAX263BEWI+T; Filter Sections: 2; Filter Type: Universal; DatasheetVersion: Rev. 4; PackageVersion: Rev. F, 10/2012; PackageReference: W28+5; PackageDescription: 28-Pin Small-Outline IC, Wide (0.3in) (W28+5), Body 17.9 x 7.5 mm, Pitch 1.27 mm; Supplier 1: Digi-Key; Supplier Part Number 1: MAX263BEWI+T-ND; Supplier 2: Mouser; Supplier Part Number 2: 700-MAX263BEWIT; Filter Characteristic: Programmable; Filter Class: Switched Cap; Order Per Filter Section: 2; Packing: Tape and Reel; Program Method: Pin Strap; RoHS: Pb-Free; Mounting Technology: Surface Mount; Code_JEDEC: MS013; ComponentLink1Description: Manufacturer URL; ComponentLink1URL: http://www.maximintegrated.com/; ComponentLink2Description: Datasheet; ComponentLink2URL: http://datasheets.maximintegrated.com/en/ds/MAX263; ComponentLink3Description: Package Specification; ComponentLink3URL: http://pdfserv.maximintegrated.com/package_dwgs/21-0042.PDF
footprint MAXM-W28+5_N (SOIC, 28-Leads, Body 17.9x7.5mm, Pitch 1.27mm, IPC Medium Density)
footprint MAXM-W28+5_L (SOIC, 28-Leads, Body 17.9x7.5mm, Pitch 1.27mm, IPC High Density)
footprint MAXM-W28+5_M (SOIC, 28-Leads, Body 17.9x7.5mm, Pitch 1.27mm, IPC Low Density)
pins: 1 INB (in) "Filter inputs", 2 LPA (out) "Lowpass outputs", 3 BPA (out) "Bandpass outputs", 4 HPA (out) "Highpass/Notch/Allpass outputs", 5 INA (in) "Filter inputs", 6 Q5 (in) "Q programming inputs", 7 M1 (in) "Mode select inputs", 8 M0 (in) "Mode select inputs", 9 Q6 (in) "Q programming inputs", 10 V+ (power) "Positive supply voltage", 11 F4 (in) "Clock/center frequency ratio (fclk/fo) programming inputs", 12 F3 (in) "Clock/center frequency ratio (fclk/fo) programming inputs", 13 CLKA "Input to the oscillator and clock input to section A.This clock is internally divided by 2.", 14 CLKB "Clock input to filter B. This clock is internally divided by 2.", 15 Q0 (in) "Q programming inputs", 16 Q1 (in) "Q programming inputs", 17 F1 (in) "Clock/center frequency ratio (fclk/fo) programming inputs", 18 V- (power) "Negative supply voltage", 19 GND (power) "Analog Ground.Connect to the system ground for dual supply operation or mid-supply for single supply operation. Gnd should be well bypassed in single supply applications.", 20 OSC OUT "Connects to crystal for self clocked operation", 21 Q2 (in) "Q programming inputs", 22 Q3 (in) "Q programming inputs", 23 F2 (in) "Clock/center frequency ratio (fclk/fo) programming inputs", 24 F0 (in) "Clock/center frequency ratio (fclk/fo) programming inputs", 25 Q4 (in) "Q programming inputs", 26 HPB (out) "Highpass/Notch/Allpass outputs", 27 BPB (out) "Bandpass outputs", 28 LPB (out) "Lowpass outputs"

## MAX263BEWI-T
designator U?
Switched Capacitor Filter, Pin Strap Programmable, -40 to 85 degC, 28-Pin SOIC (W28-5), Tape and Reel; Generic Part Number: MAX263; PartNumber: MAX263BEWI-T; Filter Sections: 2; Filter Type: Universal; DatasheetVersion: Rev. 4; PackageVersion: Rev. F, 10/2012; PackageReference: W28-5; PackageDescription: 28-Pin Small-Outline IC, Wide (0.3in) (W28-5), Body 17.9 x 7.5 mm, Pitch 1.27 mm; Supplier 1: Mouser; Supplier Part Number 1: N/A; Filter Characteristic: Programmable; Filter Class: Switched Cap; Order Per Filter Section: 2; Packing: Tape and Reel; Program Method: Pin Strap; Mounting Technology: Surface Mount; Code_JEDEC: MS013; ComponentLink1Description: Manufacturer URL; ComponentLink1URL: http://www.maximintegrated.com/; ComponentLink2Description: Datasheet; ComponentLink2URL: http://datasheets.maximintegrated.com/en/ds/MAX263; ComponentLink3Description: Package Specification; ComponentLink3URL: http://pdfserv.maximintegrated.com/package_dwgs/21-0042.PDF
footprint MAXM-W28-5_N (SOIC, 28-Leads, Body 17.9x7.5mm, Pitch 1.27mm, IPC Medium Density)
footprint MAXM-W28-5_L (SOIC, 28-Leads, Body 17.9x7.5mm, Pitch 1.27mm, IPC High Density)
footprint MAXM-W28-5_M (SOIC, 28-Leads, Body 17.9x7.5mm, Pitch 1.27mm, IPC Low Density)
pins: 1 INB (in) "Filter inputs", 2 LPA (out) "Lowpass outputs", 3 BPA (out) "Bandpass outputs", 4 HPA (out) "Highpass/Notch/Allpass outputs", 5 INA (in) "Filter inputs", 6 Q5 (in) "Q programming inputs", 7 M1 (in) "Mode select inputs", 8 M0 (in) "Mode select inputs", 9 Q6 (in) "Q programming inputs", 10 V+ (power) "Positive supply voltage", 11 F4 (in) "Clock/center frequency ratio (fclk/fo) programming inputs", 12 F3 (in) "Clock/center frequency ratio (fclk/fo) programming inputs", 13 CLKA "Input to the oscillator and clock input to section A.This clock is internally divided by 2.", 14 CLKB "Clock input to filter B. This clock is internally divided by 2.", 15 Q0 (in) "Q programming inputs", 16 Q1 (in) "Q programming inputs", 17 F1 (in) "Clock/center frequency ratio (fclk/fo) programming inputs", 18 V- (power) "Negative supply voltage", 19 GND (power) "Analog Ground.Connect to the system ground for dual supply operation or mid-supply for single supply operation. Gnd should be well bypassed in single supply applications.", 20 OSC OUT "Connects to crystal for self clocked operation", 21 Q2 (in) "Q programming inputs", 22 Q3 (in) "Q programming inputs", 23 F2 (in) "Clock/center frequency ratio (fclk/fo) programming inputs", 24 F0 (in) "Clock/center frequency ratio (fclk/fo) programming inputs", 25 Q4 (in) "Q programming inputs", 26 HPB (out) "Highpass/Notch/Allpass outputs", 27 BPB (out) "Bandpass outputs", 28 LPB (out) "Lowpass outputs"